# EAGLE library part TS01E (library FaBo-420)
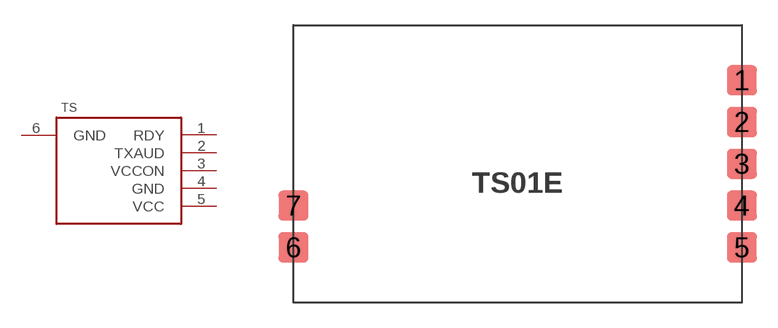
[diagram p0: symbol with the pads of TS01E; footprint TS01E]

Designator prefix TS

## TS01E  [TS01E]
1  RDY
2  TXAUD
3  VCCON
4  GND
5  VCC
6  GND

## Footprint TS01E (pad centres in mm)
smd 1.8 x 1.8: 1 13.4,5; 2 13.4,2.5; 3 13.4,0; 4 13.4,-2.5; 5 13.4,-5; 6 -13.4,-5; 7 -13.4,-2.5